# EAGLE library part SDCARD-AVX (library reprap)
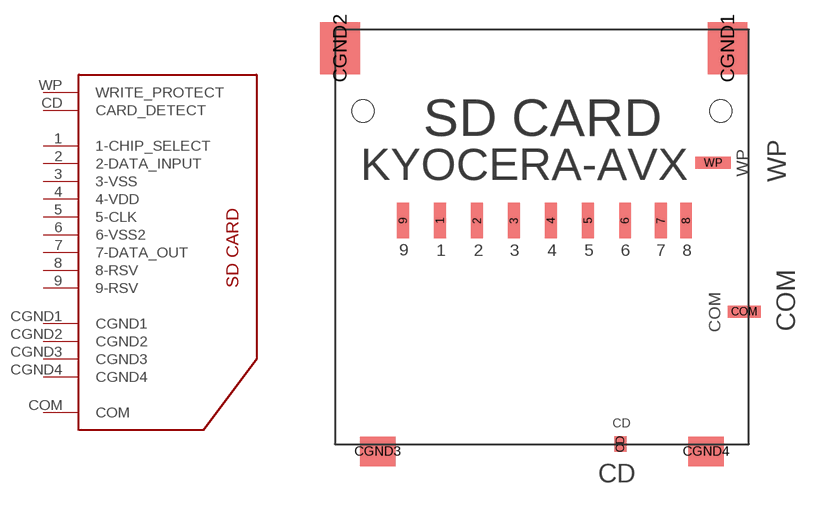
[diagram p20: symbol with the pads of KYOCERA-SDCARD; footprint KYOCERA-SDCARD]

Designator prefix J

## SDCARD-AVX  [KYOCERA-SDCARD]
1  1-CHIP_SELECT
2  2-DATA_INPUT
3  3-VSS
4  4-VDD
5  5-CLK
6  6-VSS2
7  7-DATA_OUT
8  8-RSV
9  9-RSV
CD  CARD_DETECT
CGND1  CGND1
CGND2  CGND2
CGND3  CGND3
CGND4  CGND4
COM  COM
WP  WRITE_PROTECT

## Footprint KYOCERA-SDCARD (pad centres in mm)
smd 0.8 x 2.4: 1 -6.88,1.2; 2 -4.38,1.2; 3 -1.88,1.2; 4 0.62,1.2; 5 3.12,1.2; 6 5.62,1.2; 7 8.05,1.2; 8 9.75,1.2; 9 -9.38,1.2
smd 0.8 x 1.05: CD 5.3,-13.9
smd 2.7 x 3.5: CGND1 12.55,12.85; CGND2 -13.65,12.85
smd 2.4 x 2: CGND3 -11.1,-14.4; CGND4 11.1,-14.4
smd 2.25 x 0.8: COM 13.68,-4.95
smd 2.4 x 0.8: WP 11.573,5.1
hole 1.5 at 12.1,8.6
hole 1.5 at -12.1,8.6